# Altium schematic symbol library Juno_Light_Driver.SchLib: 8 symbols
Pins are listed as number, name and electrical type; pins without a type are passive.

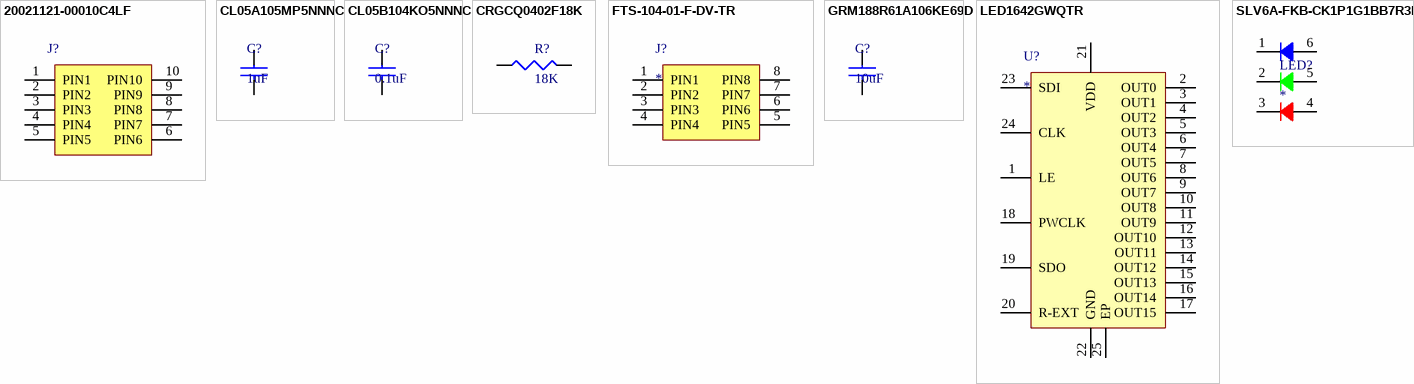
[diagram p0: symbols 20021121-00010C4LF to SLV6A-FKB-CK1P1G1BB7R3R3]

## 20021121-00010C4LF
designator J?  (value not drawn)
CONN HEADER SMD 10POS 1.27MM; Manufacturer: Amphenol FCI; Manufacturer Part Number: 20021121-00010C4LF; Number of Contacts: 10; Contact Resistance: 30mR; Current Rating: 1A; Voltage Rating: 125V; Insulation Resistance: 100MR; Gender: Male; Connector Type: Male Pin,Header; Row Spacing: 0.05inch; Stack Height: 3mm; Supplier 1: Digi-Key; Supplier Part Number 1: 609-3695-1-ND; Stock 1: 79305; Pricing 1: 1=0.84, 10=0.739, 100=0.6372 (USD); Mount: Surface Mount; Contact Plating: Gold; Contact Material: Copper Alloy,Copper,Gold; Color: Black; Housing Color: Black; Housing Material: Thermoplastic; Min Operating Temperature: -40°C; Max Operating Temperature: 85°C; Number of Rows: 2; Termination: Solder; Packaging: Tape and Reel; Package Quantity: 600; Number of Positions: 10; Max Voltage Rating (AC): 125V; Orientation: Straight; Length: 6.35mm; Pitch: 1.27mm; Contact Mating Length: 0.12inch; Depth: 3.4mm; Radiation Hardening: No; REACH SVHC: No SVHC; ComponentLink1URL: https://www.verical.com/server-webapp/html/getDatasheet?partID=177140&src-supplier=Verical; ComponentLink1Description: https://www.verical.com/server-webapp/html/getDatasheet?partID=177140&src-supplier=Verical; ComponentLink2URL: http://portal.fciconnect.com/Comergent/fci/drawing/20021121.pdf?src-supplier=Avnet; ComponentLink2Description: http://portal.fciconnect.com/Comergent/fci/drawing/20021121.pdf?src-supplier=Avnet; ComponentLink3URL: https://cdn.amphenol-icc.com/media/wysiwyg/files/drawing/20021121.pdf?src-supplier=Digi-Key; ComponentLink3Description: https://cdn.amphenol-icc.com/media/wysiwyg/files/drawing/20021121.pdf?src-supplier=Digi-Key; ComponentLink4URL: http://portal.fciconnect.com/Comergent/fci/drawing/20021121.pdf?src-supplier=Avnet+Europe; ComponentLink4Description: http://portal.fciconnect.com/Comergent/fci/drawing/20021121.pdf?src-supplier=Avnet+Europe; ComponentLink5URL: https://media.digikey.com/pdf/Data%20Sheets/FCI%20PDFs/Minitek%20127_Catalog.pdf?src-supplier=Digi-Key; ComponentLink5Description: https://media.digikey.com/pdf/Data%20Sheets/FCI%20PDFs/Minitek%20127_Catalog.pdf?src-supplier=Digi-Key; ComponentLink6URL: http://portal.fciconnect.com/Comergent//fci/drawing/20021121.pdf?src-supplier=Mouser; ComponentLink6Description: http://portal.fciconnect.com/Comergent//fci/drawing/20021121.pdf?src-supplier=Mouser
footprint 20021121-00010C4LF
pins: 1 PIN1 (power), 2 PIN2 (power), 3 PIN3 (power), 4 PIN4 (power), 5 PIN5 (power), 6 PIN6 (power), 7 PIN7 (power), 8 PIN8 (power), 9 PIN9 (power), 10 PIN10 (power)

## CL05A105MP5NNNC
designator C?, comment 1uF
Cap Ceramic 1uF 10V X5R 20% SMD 0402 85C C/T; Manufacturer 1: Samsung; Manufacturer Part Number 1: CL05A105MP5NNNC; Description 1: Cap Ceramic 1uF 10V X5R 20% SMD 0402 85C Paper T/R; Supplier 1: Digi-Key; Supplier Part Number 1: 1276-1448-6-ND; Stock 1: 42775; Pricing 1: 1=0.1, 10=0.028, 100=0.0124, 500=0.0089, 1000=0.007, 2500=0.0063, 5000=0.0058 (USD); Mount: Surface Mount; Case/Package: 0402; Case Code (Metric): 1005; Case Code (Imperial): 0402; Min Operating Temperature: -55°C; Max Operating Temperature: 85°C; Package Quantity: 1; Packaging: Tape and Reel; Capacitance: 1uF; Tolerance: 20%; Voltage Rating: 10V; Dielectric: X5R; Voltage Rating (DC): 10V; Length: 1mm; Height: 0.5mm; Width: 0.02inch; Thickness: 0.022inch; Depth: 0.5mm; Radiation Hardening: No; Lead Free: Lead Free; ComponentLink1URL: https://datasheet.ciiva.com/25802/cl05a105mp5nnnc-25802049.pdf; ComponentLink1Description: https://datasheet.ciiva.com/25802/cl05a105mp5nnnc-25802049.pdf
footprint C0402 (Chip Capacitor, 2-Leads, Body 1.00x0.50mm, IPC Medium Density)
pins: 1, 2

## CL05B104KO5NNNC
designator C?, comment 0.1uF
Cap Ceramic 0.1uF 16V X7R 10% SMD 0402 125C C/T; Manufacturer 1: Samsung; Manufacturer Part Number 1: CL05B104KO5NNNC; Description 1: Cap Ceramic 0.1uF 16V X7R 10% SMD 0402 125C Paper T/R; Capacitance: 100nF; Supplier 1: Digi-Key; Supplier Part Number 1: 1276-1001-6-ND; Stock 1: 9531; Pricing 1: 1=0.1, 10=0.018, 100=0.0081, 500=0.0058, 1000=0.0045, 2500=0.0041, 5000=0.0038 (USD); Mount: Surface Mount; Case/Package: 0402; Case Code (Metric): 1005; Case Code (Imperial): 0402; Material: Ceramic; Contact Plating: Tin; Min Operating Temperature: -55°C; Max Operating Temperature: 125°C; Tolerance: 10%; Package Quantity: 1; Packaging: Tape and Reel; Voltage Rating: 16V; Dielectric: X7R; Voltage: 16V; Voltage Rating (DC): 16V; Length: 1mm; Height: 0.5mm; Width: 0.02inch; Thickness: 0.022inch; Depth: 0.5mm; Radiation Hardening: No; Lead Free: Lead Free; ComponentLink1URL: https://datasheet.ciiva.com/16208/cl05b104kq5nnnc-16208343.pdf; ComponentLink1Description: https://datasheet.ciiva.com/16208/cl05b104kq5nnnc-16208343.pdf; ComponentLink2URL: https://datasheet.ciiva.com/26920/getdatasheetpartid-359683-26920169.pdf; ComponentLink2Description: https://datasheet.ciiva.com/26920/getdatasheetpartid-359683-26920169.pdf; ComponentLink3URL: https://datasheet.ciiva.com/26309/mlcc-catalogdownload2013-eng-26309003.pdf; ComponentLink3Description: https://datasheet.ciiva.com/26309/mlcc-catalogdownload2013-eng-26309003.pdf; ComponentLink4URL: https://datasheet.ciiva.com/29198/458718-da-01-en-vs-kondensator-0402-29198423.pdf; ComponentLink4Description: https://datasheet.ciiva.com/29198/458718-da-01-en-vs-kondensator-0402-29198423.pdf
footprint C0402 (Chip Capacitor, 2-Leads, Body 1.00x0.50mm, IPC Medium Density)
pins: 1, 2

## CRGCQ0402F18K
designator R?, comment 18K
Manufacturer: TE Connectivity; Manufacturer Part Number: CRGCQ0402F18K; Supplier 1: Digi-Key; Supplier Part Number 1: A129642CT-ND; Stock 1: 128806; Pricing 1: 1=0.1, 10=0.022, 100=0.009, 1000=0.00406, 2500=0.00352, 5000=0.00291 (USD)
footprint R0402 (Chip Resistor, 2-Leads, Body 1.00x0.50mm, IPC Medium Density)
pins: 1, 2

## FTS-104-01-F-DV-TR
designator J?
Conn Unshrouded Header HDR 8 POS 1.27mm Solder ST SMD T/R; Manufacturer 1: Samtec; Manufacturer Part Number 1: FTS-104-01-F-DV-TR; Number of Contacts: 8; Connector Type: Terminal Block; Gender: Male; Supplier 1: Digi-Key; Supplier Part Number 1: SAM13894CT-ND; Description 1: Conn Unshrouded Header HDR 8 POS 1.27mm Solder ST SMD T/R; Stock 1: 613; Pricing 1: 1=1.68, 10=1.523, 100=1.3052 (USD); Contact Plating: Gold; Contact Material: Bronze; Housing Color: Black; Housing Material: Polymer; Min Operating Temperature: -55°C; Max Operating Temperature: 125°C; Number of Rows: 2; Termination: Solder; Packaging: Tape and Reel; Orientation: Straight; Length: 5.08mm; Pitch: 1.27mm; Row Spacing: 1.27mm; Depth: 3.42mm; Radiation Hardening: No; REACH SVHC: No SVHC; ComponentLink1URL: http://www.samtec.com/ftppub/pdf/FTS.pdf?src-supplier=Farnell; ComponentLink1Description: http://www.samtec.com/ftppub/pdf/FTS.pdf?src-supplier=Farnell
footprint FTS-104-01-F-DV-TR
pins: 1 PIN1 (power), 2 PIN2 (power), 3 PIN3 (power), 4 PIN4 (power), 5 PIN5 (power), 6 PIN6 (power), 7 PIN7 (power), 8 PIN8 (power)

## GRM188R61A106KE69D
designator C?, comment 10uF
Cap Ceramic 10uF 10V X5R 10% SMD 0603 85C Paper T/R; Manufacturer: Murata; Manufacturer Part Number 1: GRM188R61A106KE69D; Supplier 1: Digi-Key; Supplier Part Number 1: 490-10474-1-ND; Description 1: Cap Ceramic 10uF 10V X5R 10% SMD 0603 85C Paper T/R; Stock: 40000; Pricing: 1=0.22, 10=0.149, 100=0.0754, 500=0.05158, 1000=0.04563 (USD); Mount: Surface Mount; Case/Package: 0603; Case Code (Metric): 1608; Case Code (Imperial): 0603; Min Operating Temperature: -55°C; Max Operating Temperature: 85°C; Capacitance: 10uF; Tolerance: 10%; Packaging: Tape and Reel; Dielectric: X5R; Voltage Rating: 10V; Voltage: 10V; Voltage Rating (DC): 10V; Length: 1.6mm; Height: 0.8mm; Width: 0.031inch; Thickness: 0.037inch; Depth: 0.8mm; REACH SVHC: No SVHC; Lead Free: Lead Free
footprint C0603 (Chip Capacitor, 2-Leads, Body 1.60x0.80mm, IPC Medium Density)
pins: 1, 2

## LED1642GWQTR
designator U?
IC LED DRIVER LIN DIM 40MA 24QFN; Manufacturer: STMicroelectronics; Manufacturer Part Number: LED1642GWQTR; Number of Outputs: 16; Frequency: 30MHz; Output Current: 50mA; Max Supply Voltage: 5.5V; Min Supply Voltage: 3V; Nominal Supply Current: 10mA; Output Voltage: 19V; Operating Supply Voltage: 3.3V; Dimming: PWM; Supplier 1: Digi-Key; Supplier Part Number 1: 497-14029-1-ND; Stock 1: 43999; Pricing 1: 1=2.1, 10=1.883, 100=1.5138, 500=1.24372, 1000=1.03052 (USD); Mount: Surface Mount; Case/Package: QFN; Number of Pins: 24; Min Operating Temperature: -40°C; Max Operating Temperature: 85°C; Package Quantity: 4000; Packaging: Tape and Reel; Min Input Voltage: 3V; Max Input Voltage: 5.5V; Max Output Current: 50mA; Number of Channels: 16; Output Current per Channel: 40mA; Max Supply Current: 10mA; Switching Frequency: 30MHz; Min Input Voltage (DC): 3V; Max Input Voltage (DC): 5.5V; Max Output Voltage: 19V; Nominal Input Voltage (DC): 3.3V; Length: 4.15mm; Height: 0.95mm; Width: 4.15mm; Radiation Hardening: No; REACH SVHC: No SVHC; Lead Free: Lead Free; ComponentLink1URL: http://www.st.com/content/ccc/resource/technical/document/datasheet/ae/9b/e2/7c/7d/66/41/08/DM00080246.pdf/files/DM00080246.pdf/jcr:content/translations/en.DM00080246.pdf?src-supplier=Digi-Key; ComponentLink1Description: http://www.st.com/content/ccc/resource/technical/document/datasheet/ae/9b/e2/7c/7d/66/41/08/DM00080246.pdf/files/DM00080246.pdf/jcr:content/translations/en.DM00080246.pdf?src-supplier=Digi-Key; ComponentLink2URL: https://www.verical.com/server-webapp/html/getDatasheet?partID=789956&src-supplier=Verical; ComponentLink2Description: https://www.verical.com/server-webapp/html/getDatasheet?partID=789956&src-supplier=Verical; ComponentLink3URL: http://www.st.com/web/en/resource/technical/document/datasheet/DM00080246.pdf?src-supplier=Avnet; ComponentLink3Description: http://www.st.com/web/en/resource/technical/document/datasheet/DM00080246.pdf?src-supplier=Avnet
footprint QFN24 (QFN, 24-Leads, Body 3.93x3.93mm, Pitch 0.50mm, Thermal Pad 2.13x2.13mm, IPC High Density)
pins: 1 LE, 2 OUT0, 3 OUT1, 4 OUT2, 5 OUT3, 6 OUT4, 7 OUT5, 8 OUT6, 9 OUT7, 10 OUT8, 11 OUT9, 12 OUT10, 13 OUT11, 14 OUT12, 15 OUT13, 16 OUT14, 17 OUT15, 18 PWCLK, 19 SDO, 20 R-EXT, 21 VDD, 22 GND, 23 SDI, 24 CLK, 25 EP

## SLV6A-FKB-CK1P1G1BB7R3R3
designator LED?
LED RGB 6PLCC SMD; Manufacturer: Cree; Manufacturer Part Number: SLV6A-FKB-CK1P1G1BB7R3R3; Color: Blue,Green,Red; Luminous Intensity: 420mcd; Test Current: 20mA; Dominant Wavelength: 470nm; Forward Voltage: 3.2V; Supplier 1: Digi-Key; Supplier Part Number 1: SLV6A-FKB-CK1P1G1BB7R3R3CT-ND; Stock 1: 101474; Pricing 1: 1=0.42, 10=0.395, 100=0.3648, 1000=0.32631 (USD); Mount: Surface Mount; Case/Package: SMD/SMT; Packaging: Tape and Reel; Length: 5.5mm; Height: 2.6mm; Width: 5.3mm
footprint CREE SLV6A-FKB
pins: 1, 2, 3 2, 4, 5, 6